# EAGLE library part DF13-6P-S (library con-Hirose)
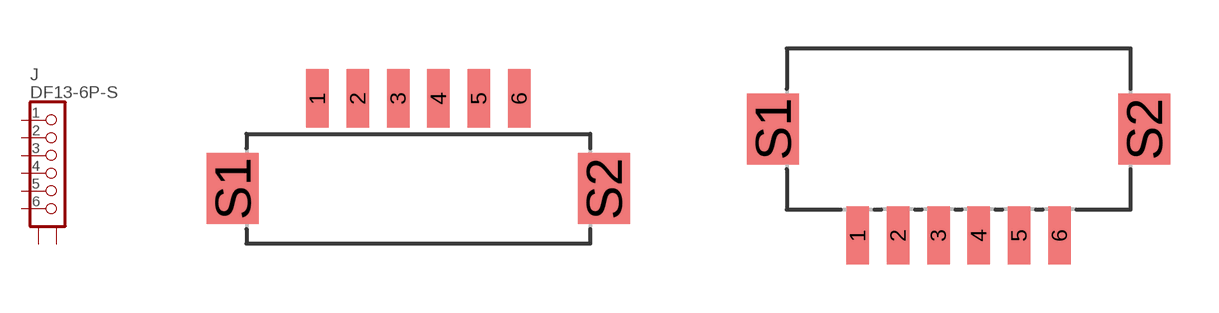
[diagram p6: symbol with the pads of DF13C-6P-1.25V; footprints DF13C-6P-1.25V, DF13A-6P-1.25H]

Designator prefix J

## DF13-6P-SV  [DF13C-6P-1.25V]
1  1  pas
2  2  pas
3  3  pas
4  4  pas
5  5  pas
6  6  pas
S1  S1  pas
S2  S2  pas

## DF13-6P-SH  [DF13A-6P-1.25H]
Pads as for DF13C-6P-1.25V

## Footprint DF13C-6P-1.25V (pad centres in mm)
smd 0.7 x 1.8: 1 -3.125,2.8; 2 -1.875,2.8; 3 -0.625,2.8; 4 0.625,2.8; 5 1.875,2.8; 6 3.125,2.8
smd 1.6 x 2.2: S1 -5.75,0; S2 5.75,0

## Footprint DF13A-6P-1.25H (pad centres in mm)
smd 0.7 x 1.8: 1 -3.125,-3.3; 2 -1.875,-3.3; 3 -0.625,-3.3; 4 0.625,-3.3; 5 1.875,-3.3; 6 3.125,-3.3
smd 1.6 x 2.2: S1 -5.75,0; S2 5.75,0